# Altium schematic symbol library transformer_power.SchLib: 8 symbols
Pins are listed as number, name and electrical type; pins without a type are passive.

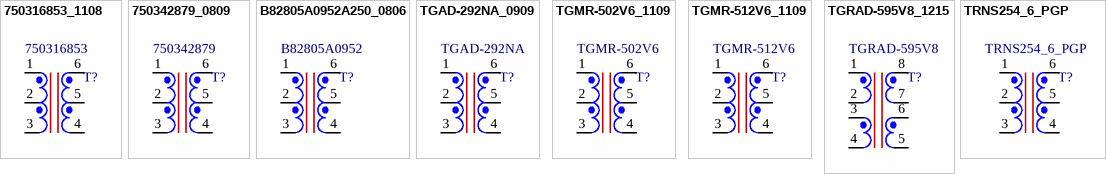
[diagram p0: symbols 750316853_1108 to TRNS254_6_PGP]

## 750316853_1108
designator T?, comment 750316853
Transformer, push-pull App, 4CT:1CT, 200uH; MANF: Wurth Elektronik; PARAM2: 4CT:1CT, 200uH, -40~125°C; MANF_P#: 750316853; PARAM: push-pull App; PRICE: 6$; VALUE: 750316853
footprint TRNS254_6_1108 (Footprint not found)
pins: 1, 2, 3, 4, 5, 6

## 750342879_0809
designator T?, comment 750342879
Transformer, push-pull App, 3.5CT:1CT, 50uH; MANF: Wurth Elektronik; PARAM2: 3.5CT:1CT, 50uH, -40~125°C; MANF_P#: 750342879; PARAM: push-pull App; PRICE: 6$; VALUE: 750342879
footprint TRNS300_6_0809 (Footprint not found)
pins: 1, 2, 3, 4, 5, 6

## B82805A0952A250_0806
designator T?, comment B82805A0952
Transformer, push-pull App, 3.8CT:1CT, 9.5uH; MANF: EPCOS/TDK; MANF_P#: B82805A0952A250; PARAM2: 3.8CT:1CT, 9.5uH, -25~125°C; PARAM: push-pull App; PRICE: 6$; VALUE: B82805A0952
footprint TRNS254_6_0806 (Footprint not found)
pins: 1, 2, 3, 4, 5, 6

## TGAD-292NA_0909
designator T?, comment TGAD-292NA
Transformer, push-pull App, 1CT:5CT; MANF: HALO; PARAM2: 1CT:5CT, -40~85°C; MANF_P#: TGAD-292NA; PARAM: push-pull App; PRICE: 6$; VALUE: TGAD-292NA
footprint TRNS254_6_0909 (Footprint not found)
pins: 1, 2, 3, 4, 5, 6

## TGMR-502V6_1109
designator T?, comment TGMR-502V6
Transformer, push-pull App, 4:1; MANF: HALO; MANF_P#: TGMR-502V6LF; PARAM2: 4:1, -40~85°C; PARAM: push-pull App; PRICE: 6$; VALUE: TGMR-502V6
footprint TRNS254_6_1109 (Footprint not found)
pins: 1, 2, 3, 4, 5, 6

## TGMR-512V6_1109
designator T?, comment TGMR-512V6
Transformer, push-pull App, 4:1CT; MANF: HALO; MANF_P#: TGMR-512V6LF; PARAM2: 4:1CT, -40~85°C; PARAM: push-pull App; PRICE: 6$; VALUE: TGMR-512V6
footprint TRNS254_6_1109 (Footprint not found)
pins: 1, 2, 3, 4, 5, 6

## TGRAD-595V8_1215
designator T?, comment TGRAD-595V8
Transformer, push-pull App, 1CT:5CT; MANF: HALO; MANF_P#: TGRAD-595V8LF; PARAM2: 1CT:5CT, -40~85°C; PARAM: push-pull App; PRICE: 6$; VALUE: TGRAD-595V8
footprint TRNS254_8_1215 (Footprint not found)
pins: 1, 2, 3, 4, 5, 6, 7, 8

## TRNS254_6_PGP
designator T?
Transformer, push-pull App, 4:1CT; PARAM2: 4:1CT, -40~85°C; MANF: -; MANF_P#: -; PARAM: push-pull App; PRICE: 6$; VALUE: TRNS254_6_PGP
footprint TRNS254_6_PGP (TRANS, push-pull app, General size)
pins: 1, 2, 3, 4, 5, 6